# Altium footprint library JST_S4B-ZR(LF)(SN).PcbLib: 1 footprints
Each footprint in its own frame and in the unit in brackets; x right, y up, seen from the top. Pads: shape width x height; smd on the part's side, far side on the other; paste and mask are expansions set on the pad; w line width, h text height; cw(c..) or ccw(c..) is an arc to the next point about the centre after c.
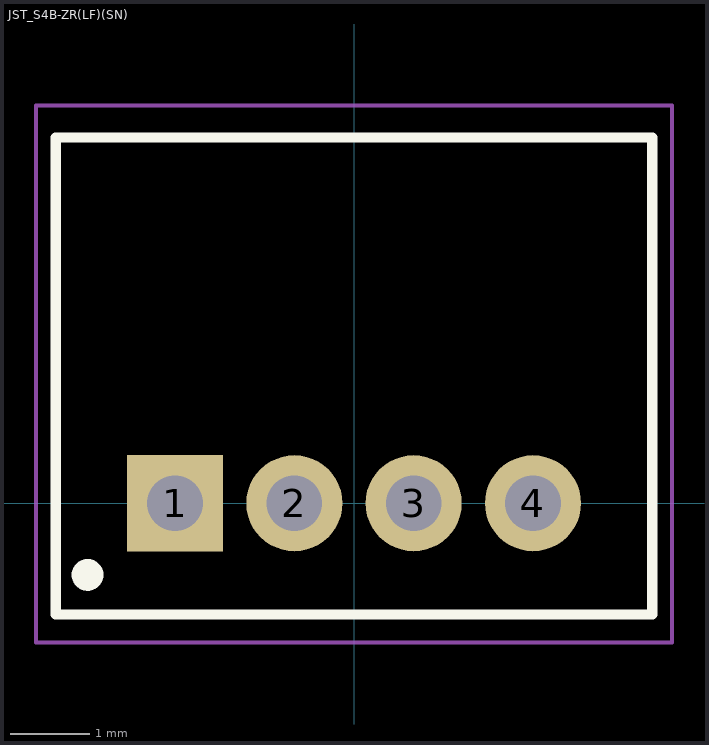
[diagram p0: the footprint, top view; thin cyan lines are the x and y axes]

## JST_S4B-ZR(LF)(SN) [mm]
pads (4):
  rect 1.208x1.208 hole 0.7: 1(-2.25,0)
  round 1.208 hole 0.7: 2(-0.75,0) 3(0.75,0) 4(2.25,0)
Top Overlay:
  circle w0.2: c-3.35,-0.9 r0.1
  lines w0.127: -3.75,-1.4 -3.75,4.6 3.75,4.6 3.75,-1.4 -3.75,-1.4
Mechanical 16:
  lines w0.05: -4,-1.75 -4,5 4,5 4,-1.75 -4,-1.75
3D body "S4B-ZR.STEP": height 3.7, standoff -2.7, extent -3.75,-1.428 3.75,4.572